# EAGLE library part FH12-26S-0.5SH (library connector)
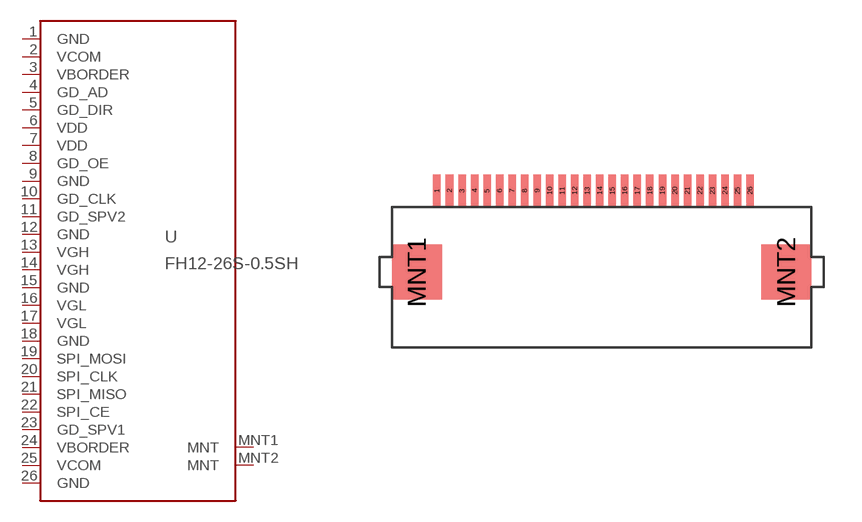
[diagram p1: symbol with the pads of FH12-26S-0.5SH; footprint FH12-26S-0.5SH]

Designator prefix -

## FH12-26S-0.5SH  [FH12-26S-0.5SH]
1  GND  pwr
2  VCOM  pwr
3  VBORDER  pwr
4  GD_AD  in
5  GD_DIR  in
6  VDD  pwr
7  VDD  pwr
8  GD_OE  in
9  GND  pwr
10  GD_CLK  in
11  GD_SPV2  in
12  GND  pwr
13  VGH  pwr
14  VGH  pwr
15  GND  pwr
16  VGL  pwr
17  VGL  pwr
18  GND  pwr
19  SPI_MOSI  in
20  SPI_CLK  in
21  SPI_MISO  out
22  SPI_CE  in
23  GD_SPV1  in
24  VBORDER  pwr
25  VCOM  pwr
26  GND  pwr
MNT1  MNT  pwr
MNT2  MNT  pwr

## Footprint FH12-26S-0.5SH (pad centres in mm)
FH12-40S-0.5SH Don't use yet, not ready. Not aligned to grid/outline is not valid
smd 0.3 x 1.3: 1 -6.24,0.65; 2 -5.74,0.65; 3 -5.24,0.65; 4 -4.74,0.65; 5 -4.24,0.65; 6 -3.74,0.65; 7 -3.24,0.65; 8 -2.74,0.65; 9 -2.24,0.65; 10 -1.74,0.65; 11 -1.24,0.65; 12 -0.74,0.65; 13 -0.24,0.65; 14 0.26,0.65; 15 0.76,0.65; 16 1.26,0.65; 17 1.76,0.65; 18 2.26,0.65; 19 2.76,0.65; 20 3.26,0.65; 21 3.76,0.65; 22 4.26,0.65; 23 4.76,0.65; 24 5.26,0.65; 25 5.76,0.65; 26 6.26,0.65
smd 2 x 2.2: MNT1 -7.04,-2.6; MNT2 7.71,-2.6